# EAGLE library part DRV8353RS (library controller)
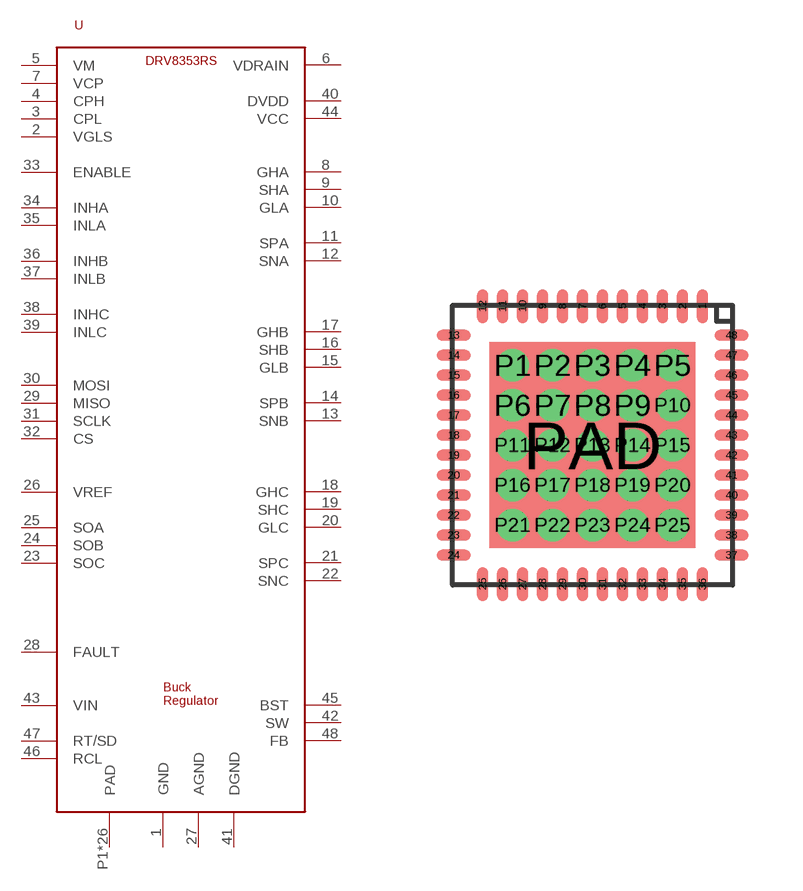
[diagram p11: symbol with the pads of PVQFN-N48; footprint PVQFN-N48]

Designator prefix -

## DRV8353RS  [PVQFN-N48]
1  GND
2  VGLS
3  CPL
4  CPH
5  VM
6  VDRAIN
7  VCP
8  GHA
9  SHA
10  GLA
11  SPA
12  SNA
13  SNB
14  SPB
15  GLB
16  SHB
17  GHB
18  GHC
19  SHC
20  GLC
21  SPC
22  SNC
23  SOC
24  SOB
25  SOA
26  VREF
27  AGND
28  FAULT
29  MISO
30  MOSI
31  SCLK
32  CS
33  ENABLE
34  INHA
35  INLA
36  INHB
37  INLB
38  INHC
39  INLC
40  DVDD
41  DGND
42  SW
43  VIN
44  VCC
45  BST
46  RCL
47  RT/SD
48  FB
P1  PAD
P2  PAD
P3  PAD
P4  PAD
P5  PAD
P6  PAD
P7  PAD
P8  PAD
P9  PAD
P10  PAD
P11  PAD
P12  PAD
P13  PAD
P14  PAD
P15  PAD
P16  PAD
P17  PAD
P18  PAD
P19  PAD
P20  PAD
P21  PAD
P22  PAD
P23  PAD
P24  PAD
P25  PAD
PAD  PAD

## Footprint PVQFN-N48 (pad centres in mm)
smd 0.28 x 0.85: 1 2.75,3.475; 2 2.25,3.475; 3 1.75,3.475; 4 1.25,3.475; 5 0.75,3.475; 6 0.25,3.475; 7 -0.25,3.475; 8 -0.75,3.475; 9 -1.25,3.475; 10 -1.75,3.475; 11 -2.25,3.475; 12 -2.75,3.475; 25 -2.75,-3.475; 26 -2.25,-3.475; 27 -1.75,-3.475; 28 -1.25,-3.475; 29 -0.75,-3.475; 30 -0.25,-3.475; 31 0.25,-3.475; 32 0.75,-3.475; 33 1.25,-3.475; 34 1.75,-3.475; 35 2.25,-3.475; 36 2.75,-3.475
smd 0.85 x 0.28: 13 -3.475,2.75; 14 -3.475,2.25; 15 -3.475,1.75; 16 -3.475,1.25; 17 -3.475,0.75; 18 -3.475,0.25; 19 -3.475,-0.25; 20 -3.475,-0.75; 21 -3.475,-1.25; 22 -3.475,-1.75; 23 -3.475,-2.25; 24 -3.475,-2.75; 37 3.475,-2.75; 38 3.475,-2.25; 39 3.475,-1.75; 40 3.475,-1.25; 41 3.475,-0.75; 42 3.475,-0.25; 43 3.475,0.25; 44 3.475,0.75; 45 3.475,1.25; 46 3.475,1.75; 47 3.475,2.25; 48 3.475,2.75
drill 0.305: P1 -2,2; P2 -1,2; P3 0,2; P4 1,2; P5 2,2; P6 -2,1; P7 -1,1; P8 0,1; P9 1,1; P10 2,1; P11 -2,0; P12 -1,0; P13 0,0; P14 1,0; P15 2,0; P16 -2,-1; P17 -1,-1; P18 0,-1; P19 1,-1; P20 2,-1; P21 -2,-2; P22 -1,-2; P23 0,-2; P24 1,-2; P25 2,-2
smd 5.15 x 5.15: PAD 0,0